# Altium footprint library ZSK_FBP_SVAS_BACK_TO_BACK_HOR.PcbLib: 1 footprints
Each footprint in its own frame and in the unit in brackets; x right, y up, seen from the top. Pads: shape width x height; smd on the part's side, far side on the other; paste and mask are expansions set on the pad; w line width, h text height; cw(c..) or ccw(c..) is an arc to the next point about the centre after c.
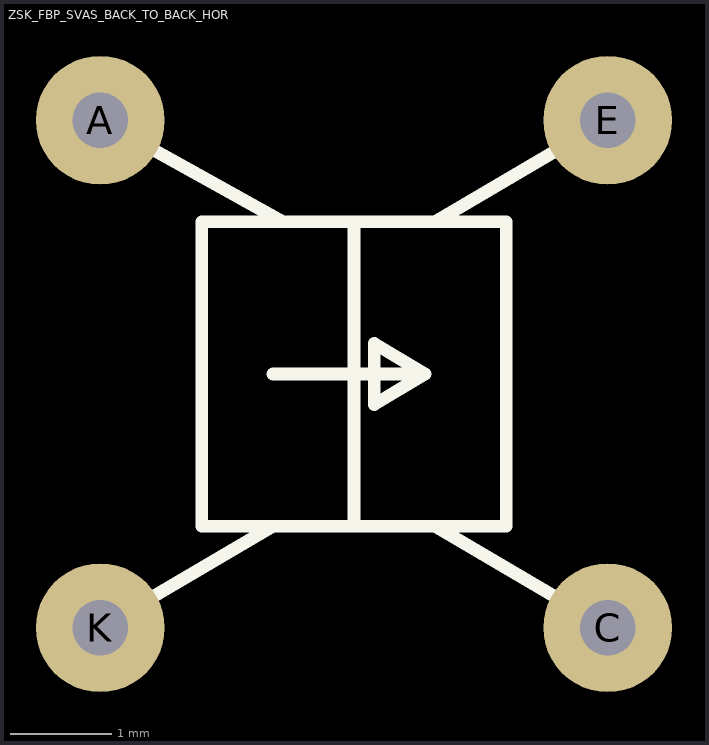
[diagram p0: the footprint, top view; thin cyan lines are the x and y axes]

## ZSK_FBP_SVAS_BACK_TO_BACK_HOR [mm]
pads (4):
  round 1.27 hole 0.55: A(-19,8) C(-14,3) E(-14,8) K(-19,3)
Top Overlay:
  lines w0.127: -19,3 -17.3,4 ; -19,8 -17.2,7 ; -17.3,5.5 -15.8,5.5 ; -14,3 -15.7,4 ; -14,8 -15.7,7 ; -17.3,4 -18,4 -18,7 -17.2,7 ; -17.3,4 -16.5,4 ; -17.2,7 -16.5,7 ; -16.5,4 -16.5,7 ; -16.5,4 -15.7,4 ; -16.5,7 -15.7,7 ; -15.8,5.5 -16.3,5.8 -16.3,5.2 -15.8,5.5 ; -15.7,4 -15,4 -15,7 -15.7,7
Mechanical 13:
  text "A" at -17.7,6.2 h0.61
  text "K" at -17.7,4.2 h0.61
  text "E" at -15.9,6.2 h0.61
  text "C" at -15.9,4.2 h0.61
  text "V1" at -18,8 h1.27
  text "2xITR-8307" at -20.1,0.8 h1.27
  text "2x ITR-8307 GLUED BACK TO BACK" at -22,10 h1.02